# EAGLE library part XRT7296IW-F (library Exar_By_element14_Batch_1)
Integrated Line Transmitter
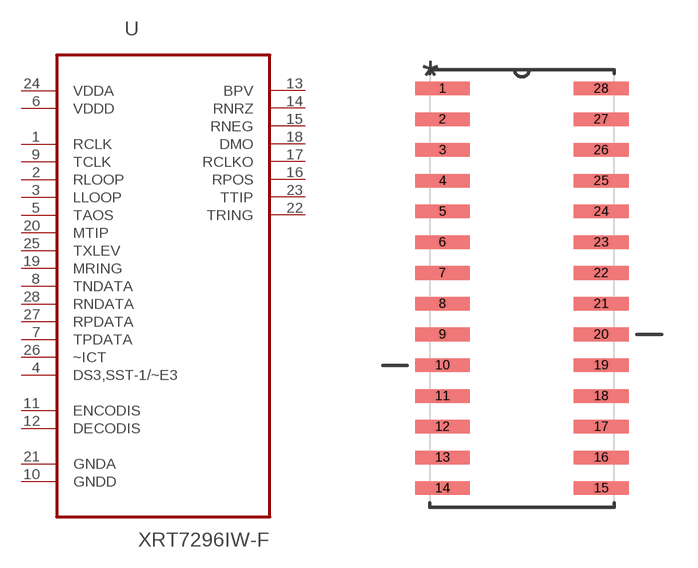
[diagram p108: symbol with the pads of SOJ127P866X356-28N; footprint SOJ127P866X356-28N]

Designator prefix U

## XRT7296IW-F (MPN: XRT7296IW-F; OC_FARNELL: 1798679; OC_NEWARK: 24R1761; PACKAGE: SOJ-28; SUPPLIER: EXAR)  [SOJ127P866X356-28N]
1  RCLK  in
2  RLOOP  in
3  LLOOP  in
4  DS3,SST-1/~E3  in
5  TAOS  in
6  VDDD  pwr
7  TPDATA  in
8  TNDATA  in
9  TCLK  in
10  GNDD  pas
11  ENCODIS  in
12  DECODIS  in
13  BPV  out
14  RNRZ  out
15  RNEG  out
16  RPOS  out
17  RCLKO  out
18  DMO  out
19  MRING  in
20  MTIP  in
21  GNDA  pas
22  TRING  out
23  TTIP  out
24  VDDA  pwr
25  TXLEV  in
26  ~ICT  in
27  RPDATA  in
28  RNDATA  in

## Footprint SOJ127P866X356-28N (pad centres in mm)
smd 2.261 x 0.559: 1 -3.277,8.255; 2 -3.277,6.985; 3 -3.277,5.715; 4 -3.277,4.445; 5 -3.277,3.175; 6 -3.277,1.905; 7 -3.277,0.635; 8 -3.277,-0.635; 9 -3.277,-1.905; 10 -3.277,-3.175; 11 -3.277,-4.445; 12 -3.277,-5.715; 13 -3.277,-6.985; 14 -3.277,-8.255; 15 3.277,-8.255; 16 3.277,-6.985; 17 3.277,-5.715; 18 3.277,-4.445; 19 3.277,-3.175; 20 3.277,-1.905; 21 3.277,-0.635; 22 3.277,0.635; 23 3.277,1.905; 24 3.277,3.175; 25 3.277,4.445; 26 3.277,5.715; 27 3.277,6.985; 28 3.277,8.255